# EAGLE library part USD-HOLDER (library AllWinner V3s)
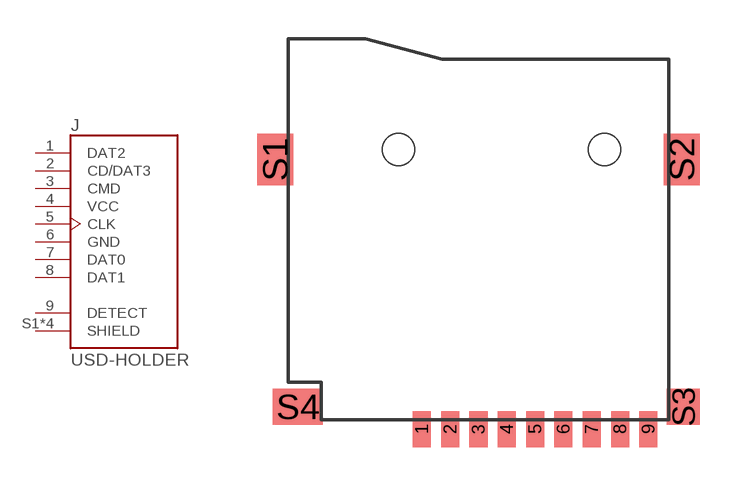
[diagram p2: symbol with the pads of USD-HOLDER; footprint USD-HOLDER]

Designator prefix J

## USD-HOLDER  [USD-HOLDER]
1  DAT2
2  CD/DAT3
3  CMD
4  VCC  pwr
5  CLK  in
6  GND  pwr
7  DAT0
8  DAT1
9  DETECT  pas
S1  SHIELD  pas
S2  SHIELD  pas
S3  SHIELD  pas
S4  SHIELD  pas

## Footprint USD-HOLDER (pad centres in mm)
smd 0.7 x 1.4: 1 -2.2,-7.62; 2 -1.1,-7.62; 3 0,-7.62; 4 1.1,-7.62; 5 2.2,-7.62; 6 3.3,-7.62; 7 4.4,-7.62; 8 5.5,-7.62; 9 6.6,-7.62
smd 1.4 x 2: S1 -7.9,2.85; S2 7.9,2.85
smd 1.28 x 1.4: S3 7.96,-6.75
smd 1.95 x 1.4: S4 -7.025,-6.75
hole 1.25 at -3.1,3.25
hole 1.25 at 4.9,3.25